# EAGLE library part IMS-A110 (library Transputers)
IMS-A110 Image and signal processing subsystem INMOS signal processor for digital image and filtering applications Source: The Digital Signal Processing Databook 1989. INMOS/SGS-Thomson Arto Kyyhkynen, artoky@dlc.fi
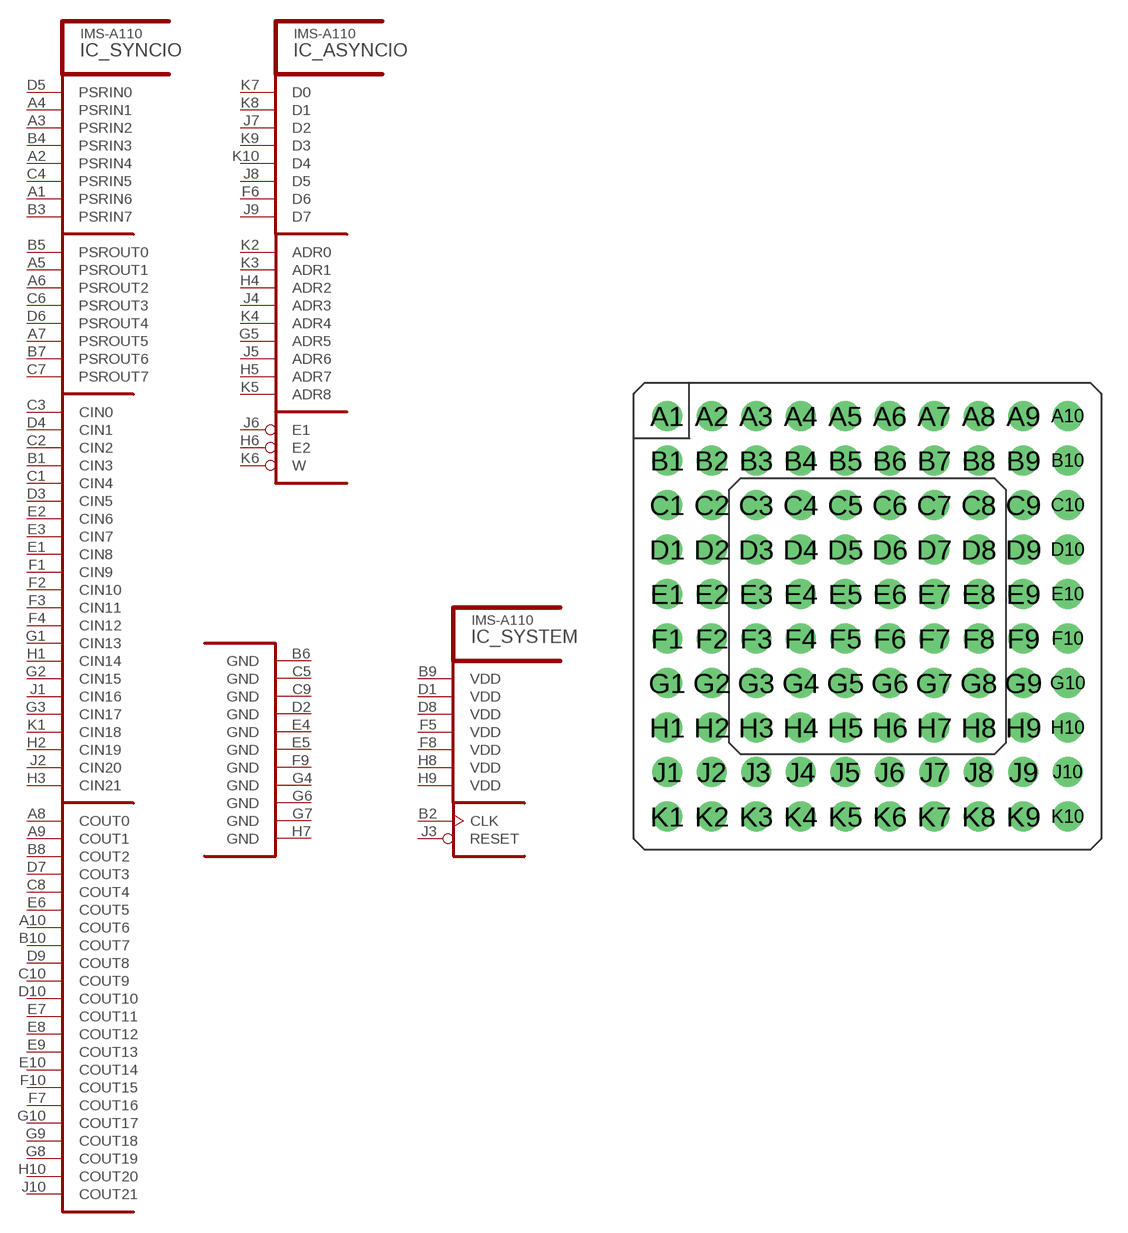
[diagram p29: symbol with the pads of PGA100; footprint PGA100]

Designator prefix IC; gates _SYNCIO=A110_SYNCIO _ASYNCIO=A110_ASYNCIO _SYSTEM=A110_SYSTEM

## IMS-A110S20G  [PGA100]
A1  _SYNCIO:PSRIN6  in
A2  _SYNCIO:PSRIN4  in
A3  _SYNCIO:PSRIN2  in
A4  _SYNCIO:PSRIN1  in
A5  _SYNCIO:PSROUT1  out
A6  _SYNCIO:PSROUT2  out
A7  _SYNCIO:PSROUT5  out
A8  _SYNCIO:COUT0  out
A9  _SYNCIO:COUT1  out
A10  _SYNCIO:COUT6  out
B1  _SYNCIO:CIN3  in
B2  _SYSTEM:CLK  in
B3  _SYNCIO:PSRIN7  in
B4  _SYNCIO:PSRIN3  in
B5  _SYNCIO:PSROUT0  out
B6  _SYSTEM:GND  pwr
B7  _SYNCIO:PSROUT6  out
B8  _SYNCIO:COUT2  out
B9  _SYSTEM:VDD  pwr
B10  _SYNCIO:COUT7  out
C1  _SYNCIO:CIN4  in
C2  _SYNCIO:CIN2  in
C3  _SYNCIO:CIN0  in
C4  _SYNCIO:PSRIN5  in
C5  _SYSTEM:GND  pwr
C6  _SYNCIO:PSROUT3  out
C7  _SYNCIO:PSROUT7  out
C8  _SYNCIO:COUT4  out
C9  _SYSTEM:GND  pwr
C10  _SYNCIO:COUT9  out
D1  _SYSTEM:VDD  pwr
D2  _SYSTEM:GND  pwr
D3  _SYNCIO:CIN5  in
D4  _SYNCIO:CIN1  in
D5  _SYNCIO:PSRIN0  in
D6  _SYNCIO:PSROUT4  out
D7  _SYNCIO:COUT3  out
D8  _SYSTEM:VDD  pwr
D9  _SYNCIO:COUT8  out
D10  _SYNCIO:COUT10  out
E1  _SYNCIO:CIN8  in
E2  _SYNCIO:CIN6  in
E3  _SYNCIO:CIN7  in
E4  _SYSTEM:GND  pwr
E5  _SYSTEM:GND  pwr
E6  _SYNCIO:COUT5  out
E7  _SYNCIO:COUT11  out
E8  _SYNCIO:COUT12  out
E9  _SYNCIO:COUT13  out
E10  _SYNCIO:COUT14  out
F1  _SYNCIO:CIN9  in
F2  _SYNCIO:CIN10  in
F3  _SYNCIO:CIN11  in
F4  _SYNCIO:CIN12  in
F5  _SYSTEM:VDD  pwr
F6  _ASYNCIO:D6
F7  _SYNCIO:COUT16  out
F8  _SYSTEM:VDD  pwr
F9  _SYSTEM:GND  pwr
F10  _SYNCIO:COUT15  out
G1  _SYNCIO:CIN13  in
G2  _SYNCIO:CIN15  in
G3  _SYNCIO:CIN17  in
G4  _SYSTEM:GND  pwr
G5  _ASYNCIO:ADR5  in
G6  _SYSTEM:GND  pwr
G7  _SYSTEM:GND  pwr
G8  _SYNCIO:COUT19  out
G9  _SYNCIO:COUT18  out
G10  _SYNCIO:COUT17  out
H1  _SYNCIO:CIN14  in
H2  _SYNCIO:CIN19  in
H3  _SYNCIO:CIN21  in
H4  _ASYNCIO:ADR2  in
H5  _ASYNCIO:ADR7  in
H6  _ASYNCIO:E2  in
H7  _SYSTEM:GND  pwr
H8  _SYSTEM:VDD  pwr
H9  _SYSTEM:VDD  pwr
H10  _SYNCIO:COUT20  out
J1  _SYNCIO:CIN16  in
J2  _SYNCIO:CIN20  in
J3  _SYSTEM:RESET  in
J4  _ASYNCIO:ADR3  in
J5  _ASYNCIO:ADR6  in
J6  _ASYNCIO:E1  in
J7  _ASYNCIO:D2
J8  _ASYNCIO:D5
J9  _ASYNCIO:D7
J10  _SYNCIO:COUT21  out
K1  _SYNCIO:CIN18  in
K2  _ASYNCIO:ADR0  in
K3  _ASYNCIO:ADR1  in
K4  _ASYNCIO:ADR4  in
K5  _ASYNCIO:ADR8  in
K6  _ASYNCIO:W  in
K7  _ASYNCIO:D0
K8  _ASYNCIO:D1
K9  _ASYNCIO:D3
K10  _ASYNCIO:D4

## Footprint PGA100 (pad centres in mm)
Ceramic Pin Grid Array
drill 1.143 pad 1.676 round: A1 -11.43,11.43; A2 -8.89,11.43; A3 -6.35,11.43; A4 -3.81,11.43; A5 -1.27,11.43; A6 1.27,11.43; A7 3.81,11.43; A8 6.35,11.43; A9 8.89,11.43; A10 11.43,11.43; B1 -11.43,8.89; B2 -8.89,8.89; B3 -6.35,8.89; B4 -3.81,8.89; B5 -1.27,8.89; B6 1.27,8.89; B7 3.81,8.89; B8 6.35,8.89; B9 8.89,8.89; B10 11.43,8.89; C1 -11.43,6.35; C2 -8.89,6.35; C3 -6.35,6.35; C4 -3.81,6.35; C5 -1.27,6.35; C6 1.27,6.35; C7 3.81,6.35; C8 6.35,6.35; C9 8.89,6.35; C10 11.43,6.35; D1 -11.43,3.81; D2 -8.89,3.81; D3 -6.35,3.81; D4 -3.81,3.81; D5 -1.27,3.81; D6 1.27,3.81; D7 3.81,3.81; D8 6.35,3.81; D9 8.89,3.81; D10 11.43,3.81; E1 -11.43,1.27; E2 -8.89,1.27; E3 -6.35,1.27; E4 -3.81,1.27; E5 -1.27,1.27; E6 1.27,1.27; E7 3.81,1.27; E8 6.35,1.27; E9 8.89,1.27; E10 11.43,1.27; F1 -11.43,-1.27; F2 -8.89,-1.27; F3 -6.35,-1.27; F4 -3.81,-1.27; F5 -1.27,-1.27; F6 1.27,-1.27; F7 3.81,-1.27; F8 6.35,-1.27; F9 8.89,-1.27; F10 11.43,-1.27; G1 -11.43,-3.81; G2 -8.89,-3.81; G3 -6.35,-3.81; G4 -3.81,-3.81; G5 -1.27,-3.81; G6 1.27,-3.81; G7 3.81,-3.81; G8 6.35,-3.81; G9 8.89,-3.81; G10 11.43,-3.81; H1 -11.43,-6.35; H2 -8.89,-6.35; H3 -6.35,-6.35; H4 -3.81,-6.35; H5 -1.27,-6.35; H6 1.27,-6.35; H7 3.81,-6.35; H8 6.35,-6.35; H9 8.89,-6.35; H10 11.43,-6.35; J1 -11.43,-8.89; J2 -8.89,-8.89; J3 -6.35,-8.89; J4 -3.81,-8.89; J5 -1.27,-8.89; J6 1.27,-8.89; J7 3.81,-8.89; J8 6.35,-8.89; J9 8.89,-8.89; J10 11.43,-8.89; K1 -11.43,-11.43; K2 -8.89,-11.43; K3 -6.35,-11.43; K4 -3.81,-11.43; K5 -1.27,-11.43; K6 1.27,-11.43; K7 3.81,-11.43; K8 6.35,-11.43; K9 8.89,-11.43; K10 11.43,-11.43